# Altium schematic symbol library Holder,Cell,18650,SMD.Schlib: 1 symbol
Pins are listed as number, name and electrical type; pins without a type are passive.

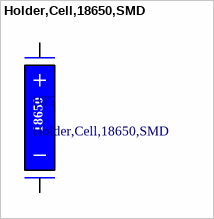
[diagram p0: symbol Holder,Cell,18650,SMD]

## Holder,Cell,18650,SMD
designator BT?
Battery Holder (Open) 18650 1 Cell SMD (SMT) Tab
pins: 1, 2
text: 18650